# Altium footprint library SM_HPAK.PcbLib: 1 footprints
Each footprint in its own frame and in the unit in brackets; x right, y up, seen from the top. Pads: shape width x height; smd on the part's side, far side on the other; paste and mask are expansions set on the pad; w line width, h text height; cw(c..) or ccw(c..) is an arc to the next point about the centre after c.
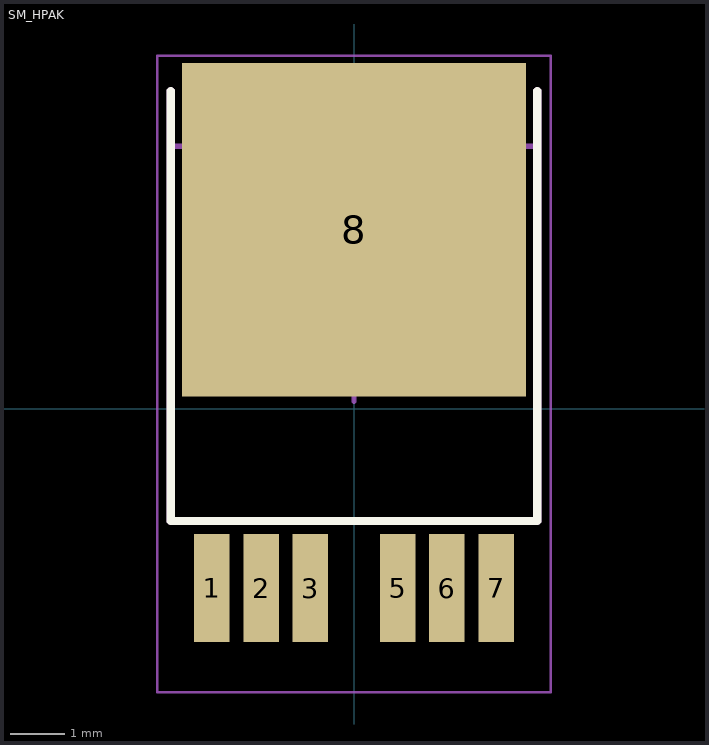
[diagram p0: the footprint, top view; thin cyan lines are the x and y axes]

## SM_HPAK [mm]
pads (7):
  rect 0.65x1.98 smd: 1(-2.6,-3.281) 2(-1.7,-3.281) 3(-0.8,-3.281) 5(0.8,-3.281) 6(1.7,-3.281) 7(2.6,-3.281)
  rect 6.3x6.1 smd: 8(0,3.281)
Top Overlay:
  lines w0.152: -3.353,5.821 -3.353,-2.053 3.353,-2.053 3.353,5.821
Mechanical 1:
  lines w0.152: -3.353,5.821 -3.353,-2.053 3.353,-2.053 3.353,5.821
Mechanical 13:
  lines w0.1: -3.35,-1.411 -3.35,4.809 3.35,4.809 3.35,-1.411
Mechanical 15:
  lines w0.05: -3.6,-5.186 3.6,-5.186 3.6,6.464 -3.6,6.464 -3.6,-5.186
  lines w0.1: -0.5,0.639 0.5,0.639 ; 0,0.139 0,1.139
3D body "hpak.step": height 2.4, standoff 0, extent -3.3,-4.092 3.3,5.708